# EAGLE library part 8PINJUKE (library Jukebox)
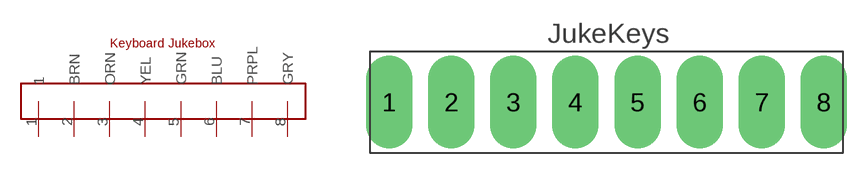
[diagram p3: symbol with the pads of 8PINJUKE; footprint 8PINJUKE]

Designator prefix -

## 8PINJUKE  [8PINJUKE]
1  1
2  BRN
3  ORN
4  YEL
5  GRN
6  BLU
7  PRPL
8  GRY

## Footprint 8PINJUKE (pad centres in mm)
drill 1 pad 3 long: 1 -14,0; 2 -10,0; 3 -6,0; 4 -2,0; 5 2,0; 6 6,0; 7 10,0; 8 14,0